# EAGLE library part TAYIO-YUDEN_0.1UF_CAP_ARRAY_0805 (library Nwazet.Go)
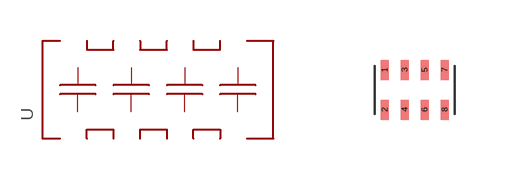
[diagram p8: symbol with the pads of TAYIO-YUDEN_CAP_ARRAY_4_CIRCUITS_0805; footprint TAYIO-YUDEN_CAP_ARRAY_4_CIRCUITS_0805]

Designator prefix -

## TAYIO-YUDEN_0.1UF_CAP_ARRAY_0805  [TAYIO-YUDEN_CAP_ARRAY_4_CIRCUITS_0805]
1  1  pas
2  2  pas
3  3  pas
4  4  pas
5  5  pas
6  6  pas
7  7  pas
8  8  pas

## Footprint TAYIO-YUDEN_CAP_ARRAY_4_CIRCUITS_0805 (pad centres in mm)
smd 0.2 x 0.5: 1 -0.75,0.5; 2 -0.75,-0.5; 3 -0.25,0.5; 4 -0.25,-0.5; 5 0.25,0.5; 6 0.25,-0.5; 7 0.75,0.5; 8 0.75,-0.5